# Altium schematic symbol library IC_USB_CONTROLLER.SchLib: 3 symbols
Pins are listed as number, name and electrical type; pins without a type are passive.

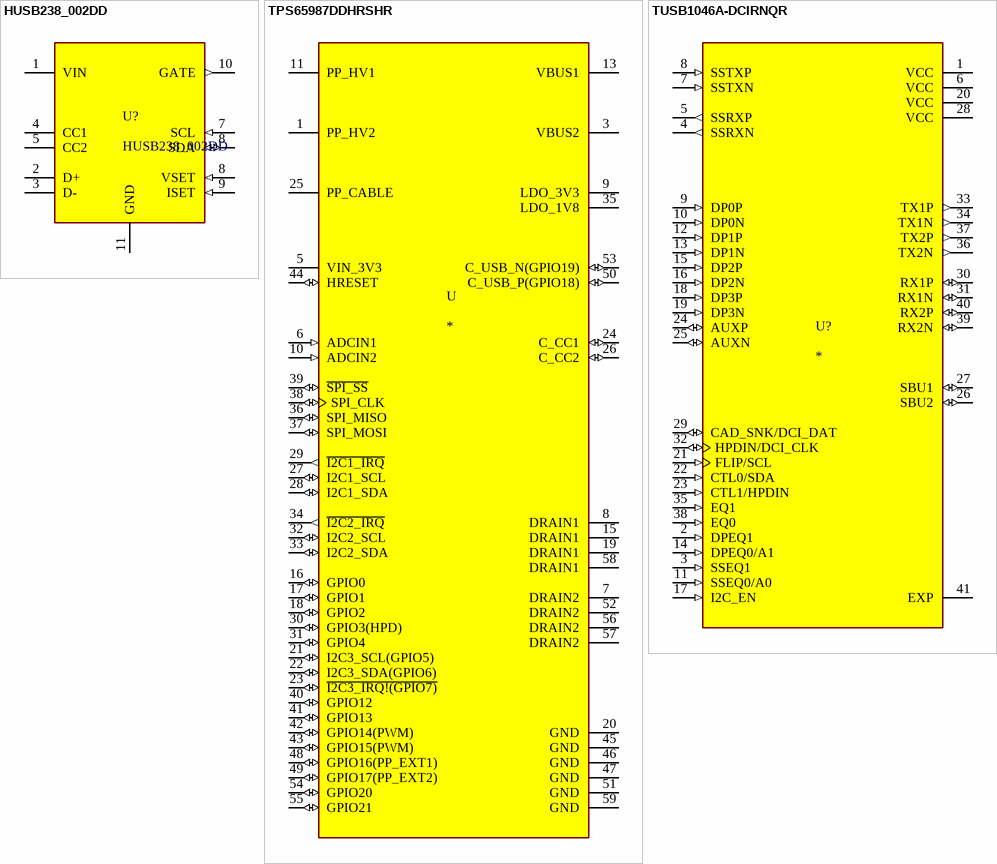
[diagram p0: symbols HUSB238_002DD to TUSB1046A-DCIRNQR]

## HUSB238_002DD
designator U?
Highly integrated USB Power Delivery (PD) controller as sink role for up to 100W power rating; MPN: *; LCSC: *
footprint DFN10_3x3_P0.5
pins: 1 VIN (power), 2 D+, 3 D-, 4 CC1, 5 CC2, 7 SCL (in), 8 SDA (io), 8 VSET (in), 9 ISET (in), 10 GATE (out), 11 GND (power)

## TPS65987DDHRSHR
designator U
USB, Type-C Controller PMIC 56-VQFN _7x7_; MPN: *; LCSC: *
footprint VQFN56-7.15X7.15-P0.4-TPS65987DDHR
pins: 1 PP_HV2 (power), 3 VBUS2 (power), 5 VIN_3V3 (power), 6 ADCIN1 (in), 7 DRAIN2, 8 DRAIN1, 9 LDO_3V3 (power), 10 ADCIN2 (in), 11 PP_HV1 (power), 13 VBUS1 (power), 15 DRAIN1, 16 GPIO0 (io), 17 GPIO1 (io), 18 GPIO2 (io), 19 DRAIN1, 20 GND (power), 21 I2C3_SCL(GPIO5) (io), 22 I2C3_SDA(GPIO6) (io), 23 ~{I2C3_IRQ!(GPIO7)} (io), 24 C_CC1 (io), 25 PP_CABLE (power), 26 C_CC2 (io), 27 I2C1_SCL (io), 28 I2C1_SDA (io), 29 ~{I2C1_IRQ} (out), 30 GPIO3(HPD) (io), 31 GPIO4 (io), 32 I2C2_SCL (io), 33 I2C2_SDA (io), 34 ~{I2C2_IRQ} (out), 35 LDO_1V8 (power), 36 SPI_MISO (io), 37 SPI_MOSI (io), 38 SPI_CLK (io), 39 ~{SPI_SS} (io), 40 GPIO12 (io), 41 GPIO13 (io), 42 GPIO14(PWM) (io), 43 GPIO15(PWM) (io), 44 HRESET (io), 45 GND (power), 46 GND (power), 47 GND (power), 48 GPIO16(PP_EXT1) (io), 49 GPIO17(PP_EXT2) (io), 50 C_USB_P(GPIO18) (io), 51 GND (power), 52 DRAIN2, 53 C_USB_N(GPIO19) (io), 54 GPIO20 (io), 55 GPIO21 (io), 56 DRAIN2, 57 DRAIN2, 58 DRAIN1, 59 GND (power)

## TUSB1046A-DCIRNQR
designator U?
USB Type-C DP ALT Mode 10-Gbps linear redriver crosspoint switch for source side; MPN: *; LCSC: *
footprint WQFN40-6X4-P0.4
pins: 1 VCC (power), 2 DPEQ1 (in), 3 SSEQ1 (in), 4 SSRXN (out), 5 SSRXP (out), 6 VCC (power), 7 SSTXN (in), 8 SSTXP (in), 9 DP0P (in), 10 DP0N (in), 11 SSEQ0/A0 (in), 12 DP1P (in), 13 DP1N (in), 14 DPEQ0/A1 (in), 15 DP2P (in), 16 DP2N (in), 17 I2C_EN (in), 18 DP3P (in), 19 DP3N (in), 20 VCC (power), 21 FLIP/SCL (in), 22 CTL0/SDA (in), 23 CTL1/HPDIN (in), 24 AUXP (io), 25 AUXN (io), 26 SBU2 (io), 27 SBU1 (io), 28 VCC (power), 29 CAD_SNK/DCI_DAT (io), 30 RX1P (io), 31 RX1N (io), 32 HPDIN/DCI_CLK (io), 33 TX1P (out), 34 TX1N (out), 35 EQ1 (in), 36 TX2N (out), 37 TX2P (out), 38 EQ0 (in), 39 RX2N (io), 40 RX2P (io), 41 EXP (power)